# EAGLE library part 1X12 (library Jordi)
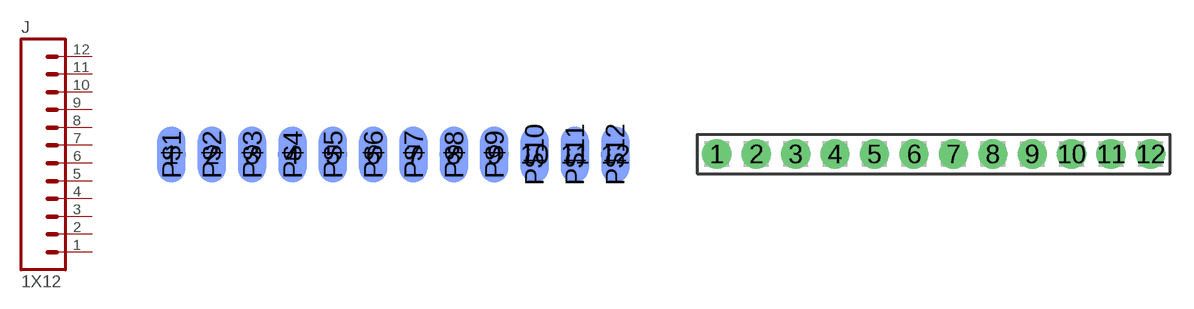
[diagram p39: symbol with the pads of CASTELLATION-12-0.1; footprints CASTELLATION-12-0.1, F-1X12-0.1-PTH]

Designator prefix J

## 1X12CAS-0.1  [CASTELLATION-12-0.1]
1  1  pas
2  2  pas
3  3  pas
4  4  pas
5  5  pas
6  6  pas
7  7  pas
8  8  pas
9  9  pas
10  10  pas
11  11  pas
12  12  pas

## 1X12F-0.1-PTH  [F-1X12-0.1-PTH]
Pads as for CASTELLATION-12-0.1

## 1X12M-0.1-PTH  [M-1X12-0.1-PTH]
Pads as for CASTELLATION-12-0.1

## Footprint CASTELLATION-12-0.1 (pad centres in mm)
drill 1.016 pad 1.778: 1 -13.97,0; 2 -11.43,0; 3 -8.89,0; 4 -6.35,0; 5 -3.81,0; 6 -1.27,0; 7 1.27,0; 8 3.81,0; 9 6.35,0; 10 8.89,0; 11 11.43,0; 12 13.97,0
smd 1.778 x 3.556 bottom: P$1 -13.97,0; P$2 -11.43,0; P$3 -8.89,0; P$4 -6.35,0; P$5 -3.81,0; P$6 -1.27,0; P$7 1.27,0; P$8 3.81,0; P$9 6.35,0; P$10 8.89,0; P$11 11.43,0; P$12 13.97,0

## Footprint F-1X12-0.1-PTH (pad centres in mm)
drill 1.016 pad 1.88: 1 -13.97,0; 2 -11.43,0; 3 -8.89,0; 4 -6.35,0; 5 -3.81,0; 6 -1.27,0; 7 1.27,0; 8 3.81,0; 9 6.35,0; 10 8.89,0; 11 11.43,0; 12 13.97,0

## Footprint M-1X12-0.1-PTH (pad centres in mm)
drill 1.016 pad 1.88: 1 -13.97,0; 2 -11.43,0; 3 -8.89,0; 4 -6.35,0; 5 -3.81,0; 6 -1.27,0; 7 1.27,0; 8 3.81,0; 9 6.35,0; 10 8.89,0; 11 11.43,0; 12 13.97,0